# Altium footprint library abak.PcbLib: 4 footprints
Each footprint in its own frame and in the unit in brackets; x right, y up, seen from the top. Pads: shape width x height; smd on the part's side, far side on the other; paste and mask are expansions set on the pad; w line width, h text height; cw(c..) or ccw(c..) is an arc to the next point about the centre after c.
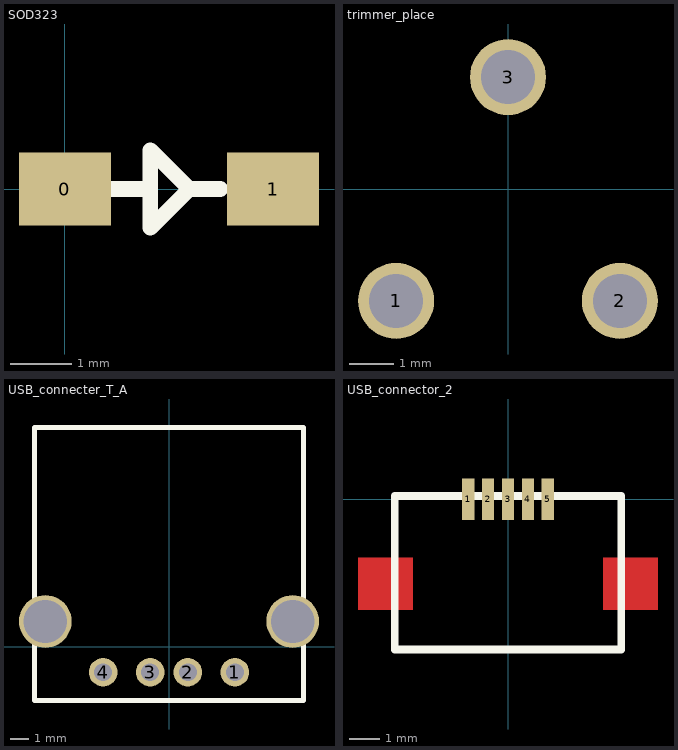
[diagram p0: the footprints below, top view; thin cyan lines are the x and y axes]

## SOD323 [mm]
pads (2):
  rect 1.5x1.2 smd: 0(0,0) 1(3.4,0)
Top Overlay:
  lines w0.254: 0.762,0 1.397,0 0.889,0 ; 2.54,0 2.032,0 ; 2.032,0 1.397,0.635 1.397,-0.635 2.032,0

## trimmer_place [mm]
pads (3):
  round 1.7 hole 1.2: 1(-2.5,-2.5) 2(2.5,-2.5) 3(0,2.5)

## USB_connecter_T_A [mm] "USB1"
pads (6):
  round 1.524 hole 0.95: 1(3.5,-1.35) 2(1,-1.35) 3(-1,-1.35) 4(-3.5,-1.35)
  round 2.8 hole 2.3: ""(-6.57,1.35) ""(6.57,1.35)
Top Overlay:
  lines w0.254: -7.15,-2.85 7.15,-2.85 7.15,11.65 -7.15,11.65 -7.15,-2.85

## USB_connector_2 [mm]
pads (5):
  rect 0.4x1.35 smd: 1(-1.3,0) 2(-0.65,0) 3(0,0) 4(0.65,0) 5(1.3,0)
Top Layer:
  rectangle: 3.1,-3.625 4.9,-1.9
  rectangle: -4.9,-3.625 -3.1,-1.9
Top Overlay:
  lines w0.254: -3.7,-4.91 3.7,-4.91 3.7,0.1 0,0.1 -3.7,0.1 -3.7,-4.91